# EAGLE library part 691366110008 (library Terminal_Blocks_Connectors_rev15e)
WR-TBL Terminal block - serie 3661 3,50mm - Plug Horizontal entry Hook on the back side - 08p Code:Con_TBL_Pluggable_3.50_Cable_H_6913661100xx_691366110008 <http://katalog.we-online.de/media/images/eican/Con_TBL_Pluggable_3.50_Cable_H_6913661100xx_pf2.jpg> Details see: http://katalog.we-online.de/en/em/691_366_110_0xx/691_366_110_008?m Created 2014-12-22, aslant tao 2014 (C) Würth Elektronik
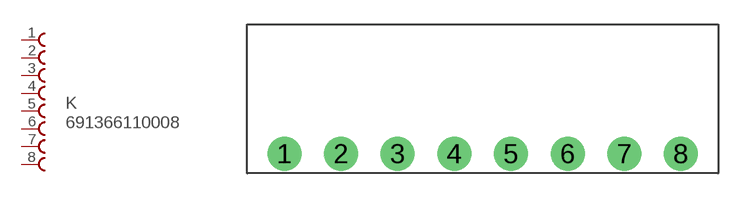
[diagram p0: symbol with the pads of 691322110008; footprint 691322110008]

Designator prefix K

## 691366110008  [691322110008]
1  1  pas
2  2  pas
3  3  pas
4  4  pas
5  5  pas
6  6  pas
7  7  pas
8  8  pas

## Footprint 691322110008 (pad centres in mm)
WR-TBL Terminal block - serie 3221 3,50mm - PCB Horizontal - 08;
drill 1.4: 1 -12.25,0; 2 -8.75,0; 3 -5.25,0; 4 -1.75,0; 5 1.75,0; 6 5.25,0; 7 8.75,0; 8 12.25,0